# Altium footprint library LED.PcbLib: 41 footprints (part 1 of 3)
Each footprint in its own frame and in the unit in brackets; x right, y up, seen from the top. Pads: shape width x height; smd on the part's side, far side on the other; paste and mask are expansions set on the pad; w line width, h text height; cw(c..) or ccw(c..) is an arc to the next point about the centre after c.
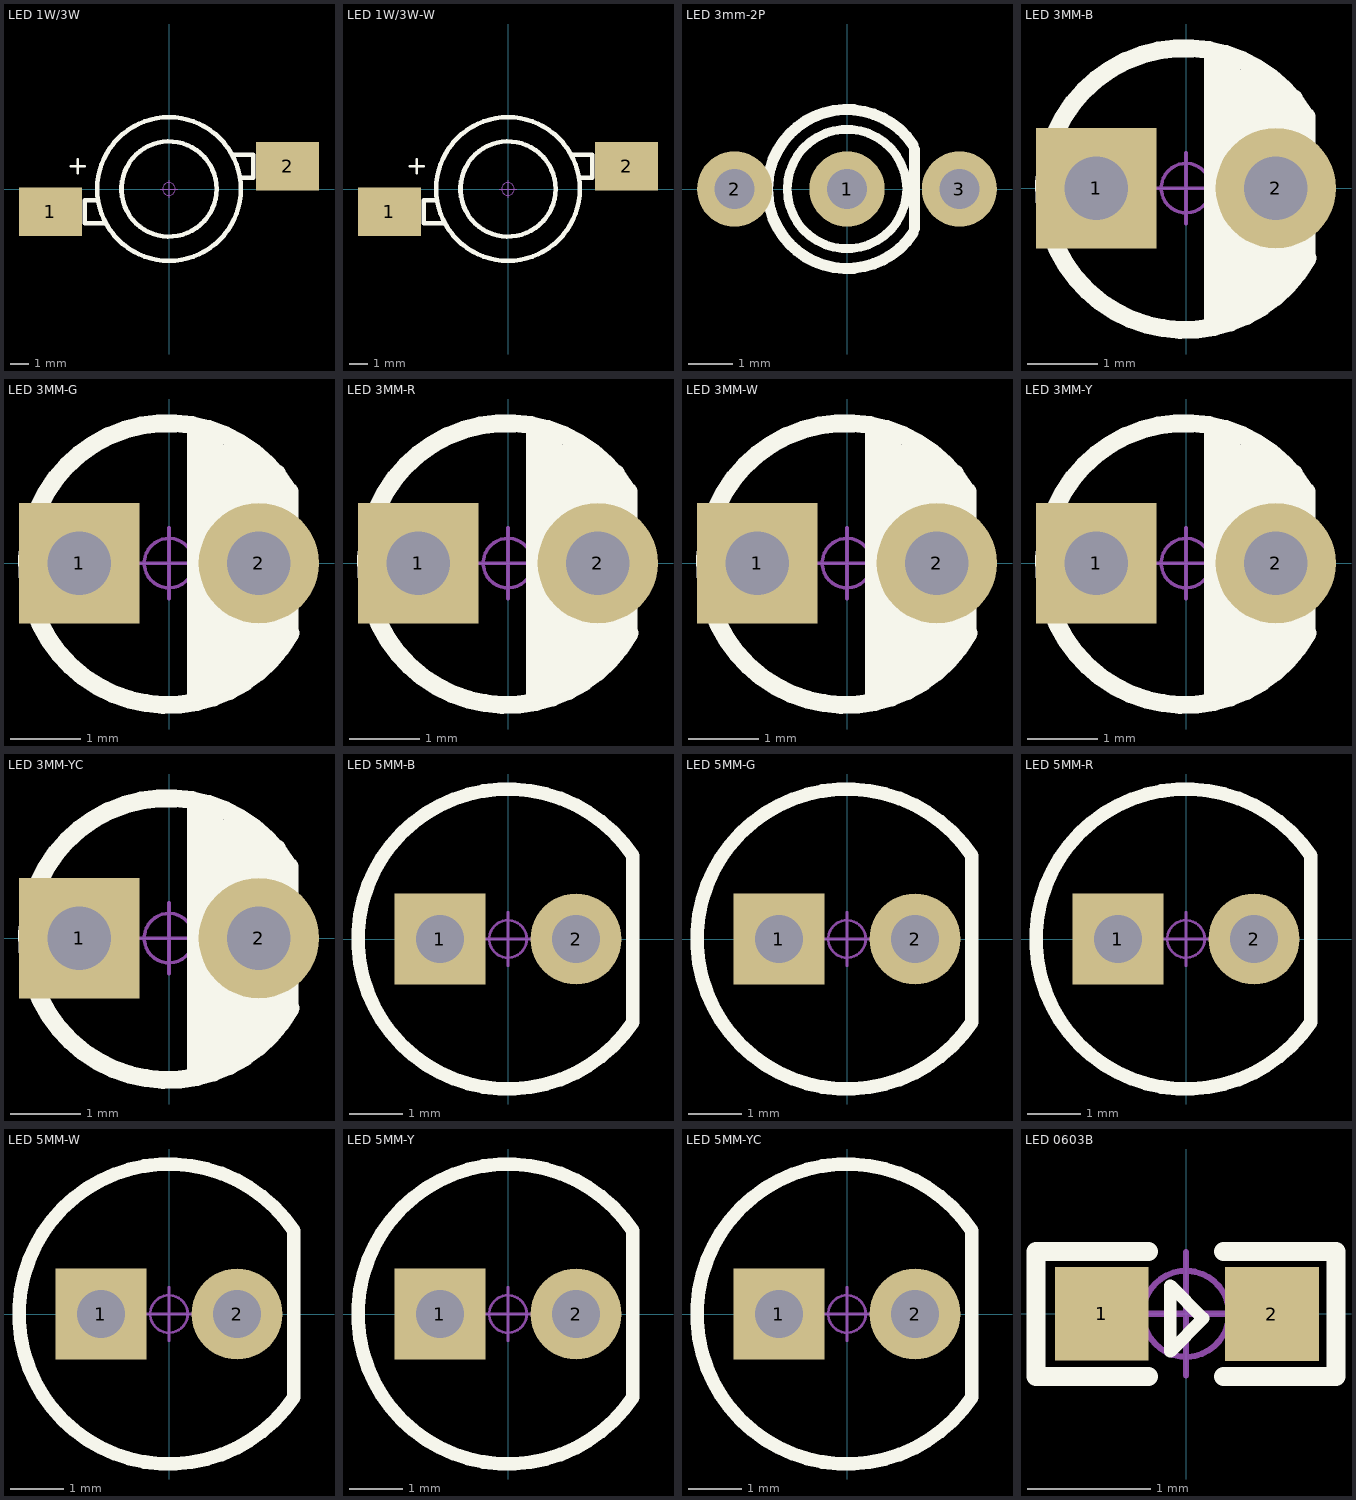
[diagram p0: the footprints below, top view; thin cyan lines are the x and y axes]

## LED 1W/3W [mm] "大功率LED"
pads (2):
  rect 3.5x2.7 smd: 1(-6.604,-1.27) 2(6.604,1.27)
Top Overlay:
  circle w0.254: c0,0 r4
  circle w0.254: c0,0 r2.65
  lines w0.15: -5.461,1.27 -4.699,1.27 ; -5.08,0.889 -5.08,1.651
  lines w0.254: -4.064,-0.635 -4.699,-0.635 -4.699,-1.905 -3.556,-1.905 ; 3.556,1.905 4.699,1.905 4.699,0.635 4.064,0.635
Mechanical 15:
  circle w0.05: c0,0 r0.35
  lines w0.05: -0.5,0 0.5,0 ; 0,-0.5 0,0.5
3D body "LED 1W 基体-无色.STEP": height 3.65, standoff 0.04, extent -7.2,-4 7.2,4
3D body "LED 1W 透明胶.STEP": height 5.26, standoff 2.46, extent -2.745,-2.745 2.745,2.745

## LED 1W/3W-W [mm] "白色，大功率LED"
pads (2):
  rect 3.5x2.7 smd: 1(-6.604,-1.27) 2(6.604,1.27)
Top Overlay:
  circle w0.254: c0,0 r2.65
  circle w0.254: c0,0 r4
  lines w0.15: -5.461,1.27 -4.699,1.27 ; -5.08,0.889 -5.08,1.651
  lines w0.254: -4.064,-0.635 -4.699,-0.635 -4.699,-1.905 -3.556,-1.905 ; 3.556,1.905 4.699,1.905 4.699,0.635 4.064,0.635
Mechanical 15:
  circle w0.05: c0,0 r0.35
  lines w0.05: -0.5,0 0.5,0 ; 0,-0.5 0,0.5
3D body "LED 1W 透明胶.STEP": height 5.26, standoff 2.46, extent -2.745,-2.745 2.745,2.745
3D body "LED 1W 基体.STEP": height 3.65, standoff 0.04, extent -7.2,-4 7.2,4

## LED 3mm-2P [mm] "3mm˫ɫLED"
height 5
pads (3):
  round 1.7 hole 0.9: 1(0,0) 2(-2.54,0) 3(2.54,0)
Top Overlay:
  circle w0.2: c0,0 r1.35
  lines w0.254: 1.494,-0.996 cw(c0,0) 1.494,0.996 ; 1.524,-0.889 1.524,0.889
3D body "3MM ˫ɫLED.STEP": height 3.82, standoff -3.15, extent -2.79,-0.75 2.79,0.75
3D body "双色LED-灯罩.STEP": height 6.9, standoff 1.4, extent -1.95,-1.95 1.696,1.95

## LED 3MM-B [mm] "蓝色3mm直插LED"
height 6.35
pads (2):
  rect 1.7x1.7 hole 0.9: 1(-1.27,0)
  round 1.7 hole 0.9: 2(1.27,0)
Top Overlay:
  lines w0.254: 0.381,-1.905 0.381,1.905 ; 0.635,-1.778 0.635,1.778 ; 1.016,-1.651 1.016,1.524 ; 1.524,1.27 1.524,-1.27 1.27,-1.524 1.27,1.397 1.143,1.524 1.016,1.524 ; 1.685,1.025 ccw(c-0.016,-0.012) 1.72,-0.987 ; 1.702,-0.965 1.702,1.016 ; 0.889,1.651 0.889,-1.778 0.889,1.651 ; 0.889,1.651 1.016,1.524
Mechanical 15:
  circle w0.05: c0,0 r0.35
  lines w0.05: -0.5,0 0.5,0 ; 0,-0.5 0,0.5
3D body "LED 3mm-玻璃罩.STEP": height 5.55, standoff 0.05, extent -1.95,-1.95 1.638,1.95
3D body "LED 3mm-B.STEP": height 3, standoff -3.45, extent -1.623,-0.838 1.618,0.838

## LED 3MM-G [mm] "绿色3mm直插LED"
height 6.35
pads (2):
  rect 1.7x1.7 hole 0.9: 1(-1.27,0)
  round 1.7 hole 0.9: 2(1.27,0)
Top Overlay:
  lines w0.254: 0.381,-1.905 0.381,1.905 ; 0.635,-1.778 0.635,1.778 ; 1.016,-1.651 1.016,1.524 ; 1.524,1.27 1.524,-1.27 1.27,-1.524 1.27,1.397 1.143,1.524 1.016,1.524 ; 1.685,1.025 ccw(c-0.016,-0.012) 1.72,-0.987 ; 1.702,-0.965 1.702,1.016 ; 0.889,1.651 0.889,-1.778 0.889,1.651 ; 0.889,1.651 1.016,1.524
Mechanical 15:
  circle w0.05: c0,0 r0.35
  lines w0.05: -0.5,0 0.5,0 ; 0,-0.5 0,0.5
3D body "LED 3mm-玻璃罩.STEP": height 5.55, standoff 0.05, extent -1.95,-1.95 1.638,1.95
3D body "LED 3mm-G.STEP": height 3.01, standoff -3.45, extent -1.623,-0.838 1.618,0.838

## LED 3MM-R [mm] "红色3mm直插LED"
height 6.35
pads (2):
  rect 1.7x1.7 hole 0.9: 1(-1.27,0)
  round 1.7 hole 0.9: 2(1.27,0)
Top Overlay:
  lines w0.254: 0.381,-1.905 0.381,1.905 ; 0.635,-1.778 0.635,1.778 ; 1.016,-1.651 1.016,1.524 ; 1.524,1.27 1.524,-1.27 1.27,-1.524 1.27,1.397 1.143,1.524 1.016,1.524 ; 1.685,1.025 ccw(c-0.016,-0.012) 1.72,-0.987 ; 1.702,-0.965 1.702,1.016 ; 0.889,1.651 0.889,-1.778 0.889,1.651 ; 0.889,1.651 1.016,1.524
Mechanical 15:
  circle w0.05: c0,0 r0.35
  lines w0.05: -0.5,0 0.5,0 ; 0,-0.5 0,0.5
3D body "LED 3mm-R.STEP": height 3.01, standoff -3.45, extent -1.623,-0.838 1.618,0.838
3D body "LED 3mm-玻璃罩.STEP": height 5.55, standoff 0.05, extent -1.95,-1.95 1.638,1.95

## LED 3MM-W [mm] "白色3mm直插LED"
height 6.35
pads (2):
  rect 1.7x1.7 hole 0.9: 1(-1.27,0)
  round 1.7 hole 0.9: 2(1.27,0)
Top Overlay:
  lines w0.254: 0.381,-1.905 0.381,1.905 ; 0.635,-1.778 0.635,1.778 ; 1.016,-1.651 1.016,1.524 ; 1.524,1.27 1.524,-1.27 1.27,-1.524 1.27,1.397 1.143,1.524 1.016,1.524 ; 1.685,1.025 ccw(c-0.016,-0.012) 1.72,-0.987 ; 1.702,-0.965 1.702,1.016 ; 0.889,1.651 0.889,-1.778 0.889,1.651 ; 0.889,1.651 1.016,1.524
Mechanical 15:
  circle w0.05: c0,0 r0.35
  lines w0.05: -0.5,0 0.5,0 ; 0,-0.5 0,0.5
3D body "LED 3mm-W.STEP": height 2.56, standoff -3.45, extent -1.623,-0.838 1.618,0.838
3D body "LED 3mm-玻璃罩.STEP": height 5.55, standoff 0.05, extent -1.95,-1.95 1.638,1.95

## LED 3MM-Y [mm] "黄色3mm直插LED"
height 6.35
pads (2):
  rect 1.7x1.7 hole 0.9: 1(-1.27,0)
  round 1.7 hole 0.9: 2(1.27,0)
Top Overlay:
  lines w0.254: 0.381,-1.905 0.381,1.905 ; 0.635,-1.778 0.635,1.778 ; 0.889,-1.778 0.889,1.651 1.016,1.524 ; 1.016,-1.651 1.016,1.524 ; 1.524,1.27 1.524,-1.27 1.27,-1.524 1.27,1.397 1.143,1.524 1.016,1.524 ; 1.685,1.025 ccw(c-0.016,-0.012) 1.72,-0.987 ; 1.702,-0.965 1.702,1.016
Mechanical 15:
  circle w0.05: c0,0 r0.35
  lines w0.05: -0.5,0 0.5,0 ; 0,-0.5 0,0.5
3D body "LED 3mm-Y.STEP": height 2.56, standoff -3.45, extent -1.623,-0.838 1.618,0.838
3D body "LED 3mm-玻璃罩.STEP": height 5.55, standoff 0.05, extent -1.95,-1.95 1.638,1.95

## LED 3MM-YC [mm] "橙色3mm直插LED"
height 6.35
pads (2):
  rect 1.7x1.7 hole 0.9: 1(-1.27,0)
  round 1.7 hole 0.9: 2(1.27,0)
Top Overlay:
  lines w0.254: 0.381,-1.905 0.381,1.905 ; 0.635,-1.778 0.635,1.778 ; 0.889,-1.778 0.889,1.651 1.016,1.524 ; 1.016,-1.651 1.016,1.524 ; 1.524,1.27 1.524,-1.27 1.27,-1.524 1.27,1.397 1.143,1.524 1.016,1.524 ; 1.685,1.025 ccw(c-0.016,-0.012) 1.72,-0.987 ; 1.702,-0.965 1.702,1.016
Mechanical 15:
  circle w0.05: c0,0 r0.35
  lines w0.05: -0.5,0 0.5,0 ; 0,-0.5 0,0.5
3D body "LED 3mm-YC.STEP": height 3, standoff -3.45, extent -1.623,-0.838 1.618,0.838
3D body "LED 3mm-玻璃罩.STEP": height 5.55, standoff 0.05, extent -1.95,-1.95 1.638,1.95

## LED 5MM-B [mm] "蓝色5mm直插LED"
height 10.16
pads (2):
  rect 1.7x1.7 hole 0.9: 1(-1.27,0)
  round 1.7 hole 0.9: 2(1.27,0)
Top Overlay:
  lines w0.254: 2.33,-1.553 cw(c0,0) 2.33,1.553 2.33,-1.553
Mechanical 15:
  circle w0.05: c0,0 r0.35
  lines w0.05: -0.5,0 0.5,0 ; 0,-0.5 0,0.5
3D body "LED 5mm玻璃罩.STEP": height 8.75, standoff 0.05, extent -2.85,-2.85 2.454,2.85
3D body "LED 5mm-B.STEP": height 4.5, standoff -3.45, extent -1.983,-0.795 2.076,0.805

## LED 5MM-G [mm] "绿色5mm直插LED"
height 10.16
pads (2):
  rect 1.7x1.7 hole 0.9: 1(-1.27,0)
  round 1.7 hole 0.9: 2(1.27,0)
Top Overlay:
  lines w0.254: 2.33,-1.553 cw(c0,0) 2.33,1.553 2.33,-1.553
Mechanical 15:
  circle w0.05: c0,0 r0.35
  lines w0.05: -0.5,0 0.5,0 ; 0,-0.5 0,0.5
3D body "LED 5mm-G.STEP": height 4.5, standoff -3.45, extent -1.983,-0.795 2.076,0.805
3D body "LED 5mm玻璃罩.STEP": height 8.75, standoff 0.05, extent -2.85,-2.85 2.454,2.85

## LED 5MM-R [mm] "红色5mm直插LED"
height 10.16
pads (2):
  rect 1.7x1.7 hole 0.9: 1(-1.27,0)
  round 1.7 hole 0.9: 2(1.27,0)
Top Overlay:
  lines w0.254: 2.33,-1.553 cw(c0,0) 2.33,1.553 2.33,-1.553
Mechanical 15:
  circle w0.05: c0,0 r0.35
  lines w0.05: -0.5,0 0.5,0 ; 0,-0.5 0,0.5
3D body "LED 5mm玻璃罩.STEP": height 8.75, standoff 0.05, extent -2.85,-2.85 2.454,2.85
3D body "LED 5mm-R.STEP": height 4.5, standoff -3.45, extent -1.983,-0.795 2.076,0.805

## LED 5MM-W [mm] "白色5mm直插LED"
height 10.16
pads (2):
  rect 1.7x1.7 hole 0.9: 1(-1.27,0)
  round 1.7 hole 0.9: 2(1.27,0)
Top Overlay:
  lines w0.254: 2.33,-1.553 cw(c0,0) 2.33,1.553 2.33,-1.553
Mechanical 15:
  circle w0.05: c0,0 r0.35
  lines w0.05: -0.5,0 0.5,0 ; 0,-0.5 0,0.5
3D body "LED 5mm玻璃罩.STEP": height 8.75, standoff 0.05, extent -2.85,-2.85 2.454,2.85
3D body "LED 5mm-W.STEP": height 4.5, standoff -3.45, extent -1.983,-0.795 2.076,0.805

## LED 5MM-Y [mm] "黄色5mm直插LED"
pads (2):
  rect 1.7x1.7 hole 0.9: 1(-1.27,0)
  round 1.7 hole 0.9: 2(1.27,0)
Top Overlay:
  lines w0.254: 2.33,-1.553 cw(c0,0) 2.33,1.553 2.33,-1.553
Mechanical 15:
  circle w0.05: c0,0 r0.35
  lines w0.05: -0.5,0 0.5,0 ; 0,-0.5 0,0.5
3D body "LED 5mm玻璃罩.STEP": height 8.75, standoff 0.05, extent -2.85,-2.85 2.454,2.85
3D body "LED 5mm-Y.STEP": height 4.5, standoff -3.45, extent -1.983,-0.795 2.076,0.805

## LED 5MM-YC [mm] "橙色5mm直插LED"
pads (2):
  rect 1.7x1.7 hole 0.9: 1(-1.27,0)
  round 1.7 hole 0.9: 2(1.27,0)
Top Overlay:
  lines w0.254: 2.33,-1.553 cw(c0,0) 2.33,1.553 2.33,-1.553
Mechanical 15:
  circle w0.05: c0,0 r0.35
  lines w0.05: -0.5,0 0.5,0 ; 0,-0.5 0,0.5
3D body "LED 5mm玻璃罩.STEP": height 8.75, standoff 0.05, extent -2.85,-2.85 2.454,2.85
3D body "LED 5mm-YC.STEP": height 4.5, standoff -3.45, extent -1.983,-0.795 2.076,0.805

## LED 0603B [mil] "蓝色0603LED"
pads (2):
  rect 30x30 smd: 1(-27,0) 2(27.5,-0.06)
Top Overlay:
  lines w4: -5,-12 5.5,-1.5 -5,9 -5,-12
  lines w6: -12,-20.06 -48,-20.06 -48,19.94 -12,19.94 ; 12,-20.06 48,-20.06 48,19.94 12,19.94
Mechanical 15:
  circle w1.97: c0,0 r13.78
  lines w1.97: -19.68,0 19.68,0 ; 0,-19.68 0,19.68
3D body "LED 0603-B.STEP": height 18.36, standoff -0.16, extent -31.49,-15.79 31.5,15.79
3D body "LED 0603玻璃罩.STEP": height 23.82, standoff 8.07, extent -23.58,-15.79 23.58,15.79